# Altium schematic symbol library SnapEDAsch.SchLib: 1 symbol
Pins are listed as number, name and electrical type; pins without a type are passive.

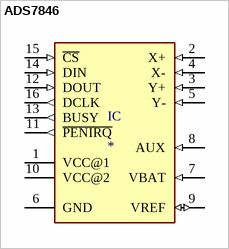
[diagram p0: symbol ADS7846]

## ADS7846
designator IC
Touchscreen Controller, 4 Wire Resistive 12 b SPI Interface 16-TSSOP; MP: ADS7846; MF: Texas Instruments; Value: *; SnapEDA_Link: https://www.snapeda.com/parts/ADS7846/Texas%20Instruments/view-part/2174/?ref=snap; Price: None; Package: TSSOP-16 Texas Instruments; Availability: Unavailable
footprint TSSOP16
pins: 1 VCC@1 (power), 2 X+ (in), 3 Y+ (in), 4 X- (in), 5 Y- (in), 6 GND (power), 7 VBAT (in), 8 AUX (in), 9 VREF (io), 10 VCC@2 (power), 11 ~{PENIRQ} (out), 12 DOUT (in), 13 BUSY (out), 14 DIN (in), 15 ~{CS} (in), 16 DCLK (out)